# Altium schematic symbol library CRCW080510K0FKEA.SchLib: 1 symbol
Pins are listed as number, name and electrical type; pins without a type are passive.

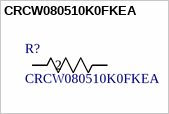
[diagram p0: symbol CRCW080510K0FKEA]

## CRCW080510K0FKEA
designator R?
D12/CRCW0805 100 10K 1% ET1 e3; Manufacturer_Name: Vishay; Copyright: Copyright (C) 2025 Ultra Librarian. All rights reserved.; Manufacturer_Part_Number: CRCW080510K0FKEA
footprint RES_CRCW_0805
pins: 1, 2